# EAGLE library part ICL7660 (library +Praktikanten)
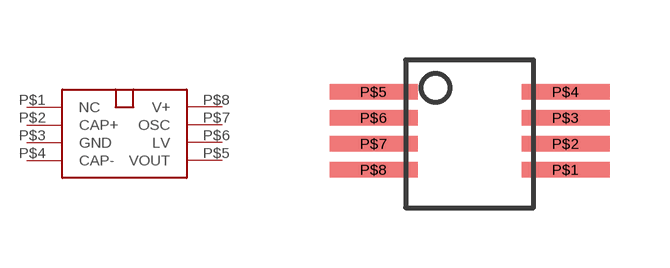
[diagram p1: symbol with the pads of ICL7660; footprint ICL7660]

Designator prefix -

## ICL7660  [ICL7660]
P$1  NC
P$2  CAP+
P$3  GND
P$4  CAP-
P$5  VOUT
P$6  LV
P$7  OSC
P$8  V+

## Footprint ICL7660 (pad centres in mm)
smd 2.2 x 0.38: P$1 4,0.95; P$2 4,1.6; P$3 4,2.25; P$4 4,2.9; P$5 -0.8,2.9; P$6 -0.8,2.25; P$7 -0.8,1.6; P$8 -0.8,0.95